# Altium footprint library DO.PcbLib: 2 footprints
Each footprint in its own frame and in the unit in brackets; x right, y up, seen from the top. Pads: shape width x height; smd on the part's side, far side on the other; paste and mask are expansions set on the pad; w line width, h text height; cw(c..) or ccw(c..) is an arc to the next point about the centre after c.
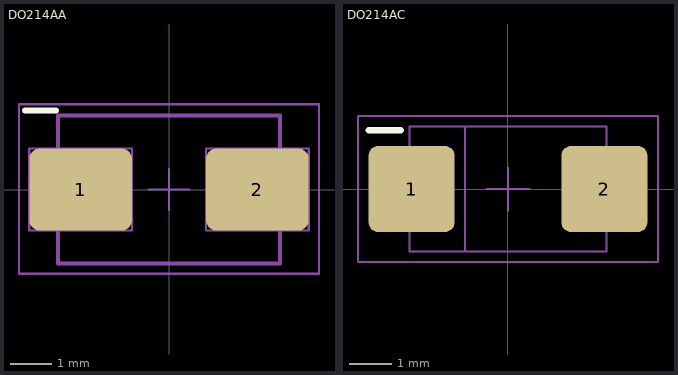
[diagram p0: the footprints below, top view; thin cyan lines are the x and y axes]

## DO214AA [mm] "DIODE SMB / DO-214AA"
height 2.622
pads (2):
  rrect25% 2.5x2 smd mask+0.075: 1(-2.15,0) 2(2.15,0)
Top Overlay:
  lines w0.152: -3.5,1.925 -2.75,1.925
Top Assembly:
  lines w0.05: -3.4,-1 -3.4,1 -0.9,1 -0.9,-1 -3.4,-1 ; 0.9,-1 0.9,1 3.4,1 3.4,-1 0.9,-1
  lines w0.1: -2.7,-1.8 -2.7,1.8 2.7,1.8 2.7,-1.8 -2.7,-1.8
  text "K" at -3.4,-1 h0.3
Mechanical 15:
  lines w0.05: -0.5,0 0,0 ; 0,-0.5 0,0 ; 0,0.5 0,0 ; 0.5,0 0,0 ; -3.65,-2.05 -3.65,2.075 3.65,2.075 3.65,-2.05 -3.65,-2.05
3D body "Diode_SMB.step": height 2.62, standoff -0.03, extent -2.7,-1.8 2.7,1.8

## DO214AC [mm] "DO214AC, SMA"
height 1
pads (2):
  rrect20% 2x2 smd mask+0.07: 1(-2.25,0) 2(2.25,0)
Top Overlay:
  lines w0.15: -3.25,1.375 -2.5,1.375
Top Courtyard:
  lines w0.05: -0.5,0 0.5,0 ; 0,-0.5 0,0.5 ; -3.5,-1.7 3.5,-1.7 3.5,1.7 -3.5,1.7 -3.5,-1.7
Top Assembly:
  lines w0.05: -1,-1.45 -1,1.45 ; -2.3,-1.46 -2.3,1.46 2.3,1.46 2.3,-1.46 -2.3,-1.46
  text "K" at -2.3,-1.45 h1.5
3D body "SMA (DO-214AC).STEP": height 2.31, standoff 0.01, extent -2.6,-1.45 2.6,1.45